# EAGLE library part 625040230621 (library Wurth_Elektronik_Electromechanic_Wire_to_Board_Connectors_rev15c)
WR-BHD 2.00mm Male SMT Box Header With Lever, 40 pins
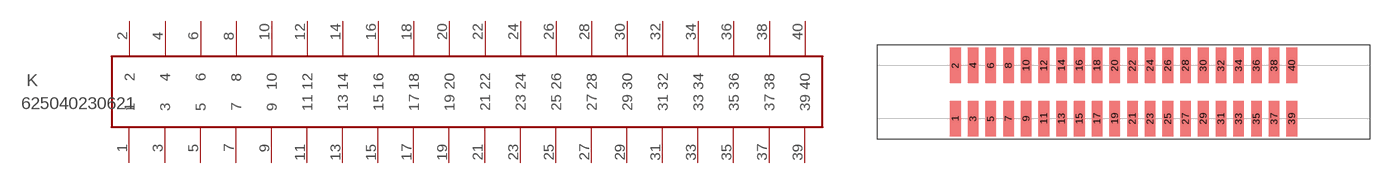
[diagram p254: symbol with the pads of 625040230621; footprint 625040230621]

Designator prefix K

## 625040230621  [625040230621]
1  1  pas
2  2  pas
3  3  pas
4  4  pas
5  5  pas
6  6  pas
7  7  pas
8  8  pas
9  9  pas
10  10  pas
11  11  pas
12  12  pas
13  13  pas
14  14  pas
15  15  pas
16  16  pas
17  17  pas
18  18  pas
19  19  pas
20  20  pas
21  21  pas
22  22  pas
23  23  pas
24  24  pas
25  25  pas
26  26  pas
27  27  pas
28  28  pas
29  29  pas
30  30  pas
31  31  pas
32  32  pas
33  33  pas
34  34  pas
35  35  pas
36  36  pas
37  37  pas
38  38  pas
39  39  pas
40  40  pas

## Footprint 625040230621 (pad centres in mm)
WR-BHD-2.00mm Male SMT Box Header With Lever,40 pins
smd 1.2 x 4: 1 -16,-3; 2 -16,3; 3 -14,-3; 4 -14,3; 5 -12,-3; 6 -12,3; 7 -10,-3; 8 -10,3; 9 -8,-3; 10 -8,3; 11 -6,-3; 12 -6,3; 13 -4,-3; 14 -4,3; 15 -2,-3; 16 -2,3; 17 0,-3; 18 0,3; 19 2,-3; 20 2,3; 21 4,-3; 22 4,3; 23 6,-3; 24 6,3; 25 8,-3; 26 8,3; 27 10,-3; 28 10,3; 29 12,-3; 30 12,3; 31 14,-3; 32 14,3; 33 16,-3; 34 16,3; 35 18,-3; 36 18,3; 37 20,-3; 38 20,3; 39 22,-3; 40 22,3